# Altium schematic symbol library QUTMS_MOSFETLibrary.SchLib: 4 symbols
Pins are listed as number, name and electrical type; pins without a type are passive.

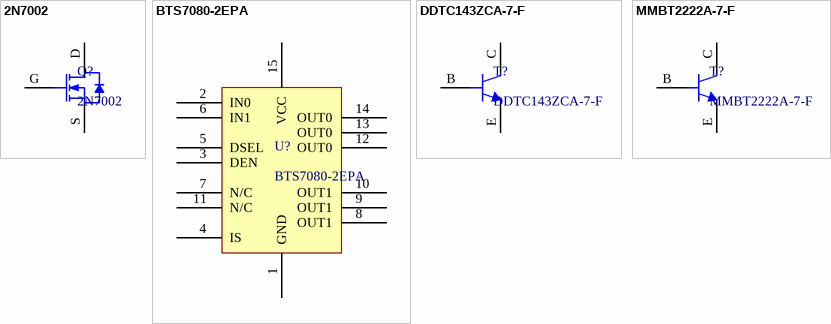
[diagram p0: symbols 2N7002 to MMBT2222A-7-F]

## 2N7002
designator Q?
footprint SOT23-3 (SOT23, 3-Leads, Body 2.90x2.45mm, Pitch 0.95mm, IPC Medium Density)
pins: D, G, S

## BTS7080-2EPA
designator U?
Power Switch/Driver 1:1 N-Channel 3A PG-TSDSO-14-22; ComponentLink1Description: Digikey; ComponentLink1URL: https://www.digikey.com/product-detail/en/infineon-technologies/BTS70802EPAXUMA1/BTS70802EPAXUMA1CT-ND/8346497; ComponentLink2Description: Datasheet; ComponentLink2URL: https://www.infineon.com/dgdl/Infineon-BTS7080-2EPA-DataSheet-v01_06-EN.pdf?fileId=5546d4625e763904015e941bf21e2dbe
footprint BTS70802EPA
pins: 1 GND, 2 IN0, 3 DEN, 4 IS, 5 DSEL, 6 IN1, 7 N/C, 8 OUT1, 9 OUT1, 10 OUT1, 11 N/C, 12 OUT0, 13 OUT0, 14 OUT0, 15 VCC

## DDTC143ZCA-7-F
designator T?
ComponentLink1Description: Digikey; ComponentLink1URL: https://www.digikey.com.au/product-detail/en/diodes-incorporated/DDTC143ZCA-7-F/DDTC143ZCA-FDICT-ND/815626; ComponentLink2Description: Datasheet; ComponentLink2URL: https://www.diodes.com/assets/Datasheets/ds30330.pdf
footprint SOT23-3 - Transistor (SOT23, 3-Leads, Body 2.90x2.45mm, Pitch 0.95mm, IPC Medium Density)
pins: B, C, E

## MMBT2222A-7-F
designator T?
Bipolar (BJT) Transistor NPN 40V 600mA 300MHz 310mW Surface Mount SOT-23-3; ComponentLink1Description: Digikey; ComponentLink1URL: https://www.digikey.com.au/product-detail/en/diodes-incorporated/DDTC143ZCA-7-F/DDTC143ZCA-FDICT-ND/815626; ComponentLink2Description: Datasheet; ComponentLink2URL: https://www.diodes.com/assets/Datasheets/ds30330.pdf
footprint SOT23-3 - Transistor (SOT23, 3-Leads, Body 2.90x2.45mm, Pitch 0.95mm, IPC Medium Density)
pins: B, C, E